# EAGLE library part PINHD-2X13 (library pinhead)
PIN HEADER
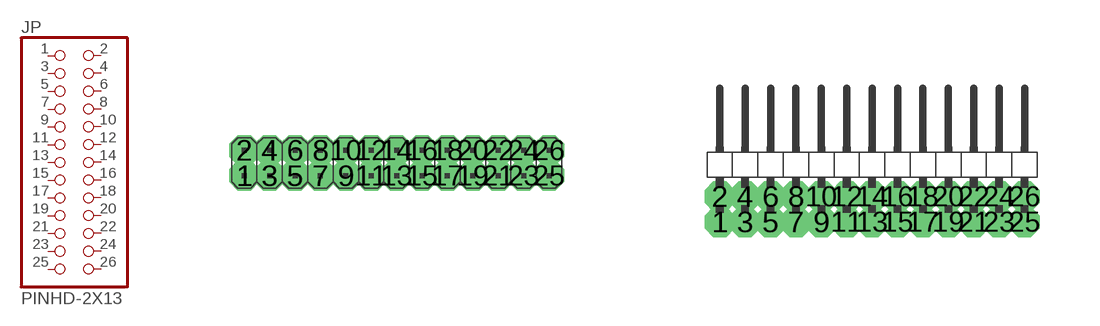
[diagram p30: symbol with the pads of 2X13; footprints 2X13, 2X13/90]

Designator prefix JP

## PINHD-2X13  [2X13]
1  1  pas
2  2  pas
3  3  pas
4  4  pas
5  5  pas
6  6  pas
7  7  pas
8  8  pas
9  9  pas
10  10  pas
11  11  pas
12  12  pas
13  13  pas
14  14  pas
15  15  pas
16  16  pas
17  17  pas
18  18  pas
19  19  pas
20  20  pas
21  21  pas
22  22  pas
23  23  pas
24  24  pas
25  25  pas
26  26  pas

## PINHD-2X13/90  [2X13/90]
Pads as for 2X13

## Footprint 2X13 (pad centres in mm)
PIN HEADER
drill 0.254 octagon: 1 -3.81,-0.318; 2 -3.81,0.318; 3 -3.175,-0.318; 4 -3.175,0.318; 5 -2.54,-0.318; 6 -2.54,0.318; 7 -1.905,-0.318; 8 -1.905,0.318; 9 -1.27,-0.318; 10 -1.27,0.318; 11 -0.635,-0.318; 12 -0.635,0.318; 13 0,-0.318; 14 0,0.318; 15 0.635,-0.318; 16 0.635,0.318; 17 1.27,-0.318; 18 1.27,0.318; 19 1.905,-0.318; 20 1.905,0.318; 21 2.54,-0.318; 22 2.54,0.318; 23 3.175,-0.318; 24 3.175,0.318; 25 3.81,-0.318; 26 3.81,0.318

## Footprint 2X13/90 (pad centres in mm)
PIN HEADER
drill 0.254 octagon: 1 -3.81,-1.587; 2 -3.81,-0.953; 3 -3.175,-1.587; 4 -3.175,-0.953; 5 -2.54,-1.587; 6 -2.54,-0.953; 7 -1.905,-1.587; 8 -1.905,-0.953; 9 -1.27,-1.587; 10 -1.27,-0.953; 11 -0.635,-1.587; 12 -0.635,-0.953; 13 0,-1.587; 14 0,-0.953; 15 0.635,-1.587; 16 0.635,-0.953; 17 1.27,-1.587; 18 1.27,-0.953; 19 1.905,-1.587; 20 1.905,-0.953; 21 2.54,-1.587; 22 2.54,-0.953; 23 3.175,-1.587; 24 3.175,-0.953; 25 3.81,-1.587; 26 3.81,-0.953